# Altium integrated library Integrated_Library - 03.05.18 - 01.38.IntLib: 1 symbol
Pins are listed as number, name and electrical type; pins without a type are passive.

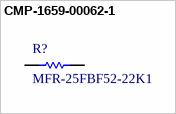
[diagram p0: symbol CMP-1659-00062-1]

## CMP-1659-00062-1
designator R?, comment MFR-25FBF52-22K1
Axial Resistor, 22.1 KOhm, +/- 1%, 0.25 W, -55 to 155 degC, 2-Pin THD, RoHS, Bulk; Case\Package: 1008; Current Rating: 1.5 A; Resistance: 0.09 Ohm; Shielding: Shielded; Tolerance: 20%; Radiation Hardening: No; Length: 2.5 mm; ComponentLink1Description: Manufacturer URL; Max Operating Temperature: 85 degC; ComponentLink2URL: http://www.yageo.com/documents/recent/Yageo%20LR_MFR_2013.pdf; Height: 1.1 mm; Packaging: Tape and Reel; Package Quantity: 3000; Min Operating Temperature: -40 degC; DatasheetVersion: Apr-13; RoHSCompliant: true; ComponentLink2Description: Datasheet; PackageReference: MFR-25; PackageDescription: 2-Pin Axial Lead, Dia 2.4 mm, Body Length 6.3 mm; Width: 2 mm; Mount: Surface Mount; ComponentLink1URL: http://www.yageo.com/; Case Code (Metric): 2520
footprint RESA60-630X240 (Axial Resistor, 2-Leads, Dia 2.4mm, Body Length 6.3mm)
pins: 1, 2